# EAGLE library part KC-18-A (library e-switch)
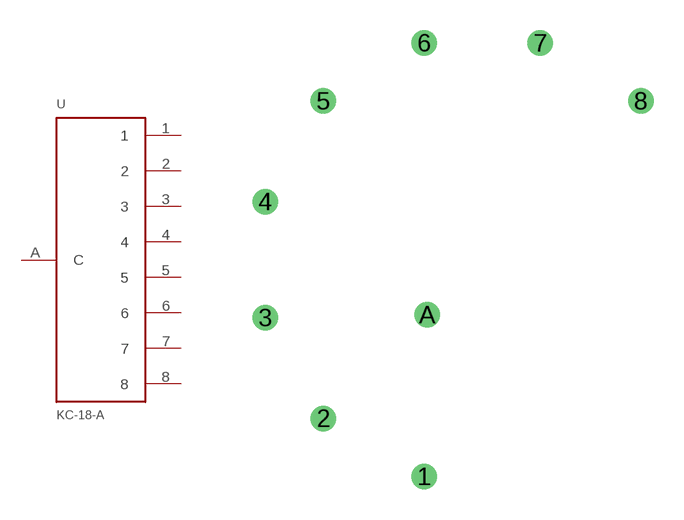
[diagram p0: symbol with the pads of KC-18-A; footprint KC-18-A]

Designator prefix -

## KC-18-A  [KC-18-A]
1  1
2  2
3  3
4  4
5  5
6  6
7  7
8  8
A  C

## Footprint KC-18-A (pad centres in mm)
drill 0.75: 1 -2.873,-10.722; 2 -7.849,-7.849; 3 -10.722,-2.873; 4 -10.722,2.873; 5 -7.849,7.849; 6 -2.873,10.722; 7 2.873,10.722; 8 7.849,7.849; A -2.722,-2.722